# Altium schematic symbol library Components.SchLib: 1 symbol
Pins are listed as number, name and electrical type; pins without a type are passive.

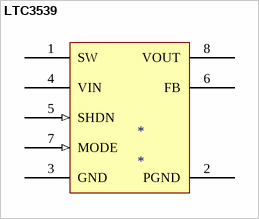
[diagram p0: symbol LTC3539]

## LTC3539
designator *
pins: 1 SW, 2 PGND (power), 3 GND (power), 4 VIN (power), 5 SHDN (in), 6 FB, 7 MODE (in), 8 VOUT (power)